# Altium schematic symbol library Texas_Instruments.SchLib: 5 symbols
Pins are listed as number, name and electrical type; pins without a type are passive.

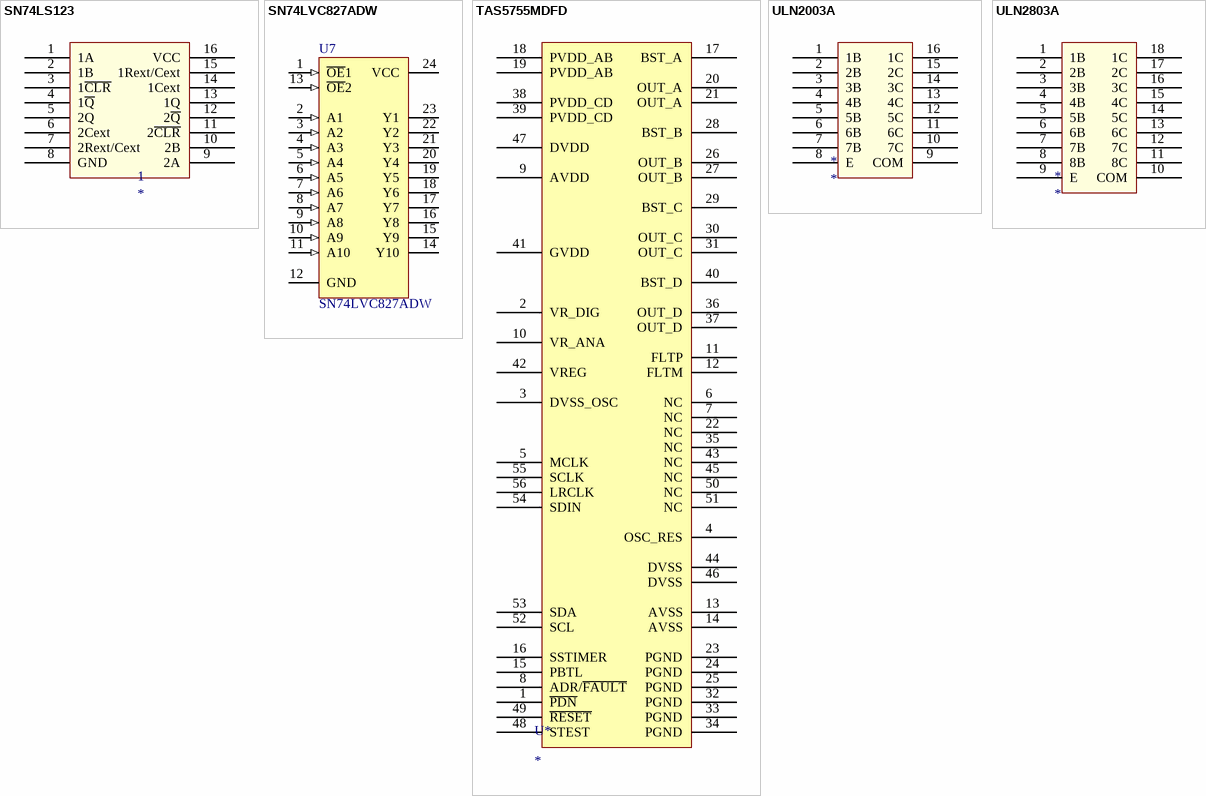
[diagram p0: symbols SN74LS123 to ULN2803A]

## SN74LS123
designator 1
footprint SOP127P600-8N
pins: 1 1A, 2 1B, 3 1~{CLR}, 4 1~{Q}, 5 2Q, 6 2Cext, 7 2Rext/Cext, 8 GND, 9 2A, 10 2B, 11 2~{CLR}, 12 2~{Q}, 13 1Q, 14 1Cext, 15 1Rext/Cext, 16 VCC

## SN74LVC827ADW
designator U7
10-Bit Buffer/Driver with 3-State Outputs; Published: 8-Jun-2000; LatestRevisionDate: 13-Apr-2006; LatestRevisionNote: IPC-7351 Footprint Added.; DatasheetVersion: Jun-1998; PackageVersion: Mar-2000; PackageReference: DW024; Publisher: Altium Limited; PackageDescription: 24-Pin Plastic Small Outline Integrated Circuit 1.27 mm Pitch; Code_JEDEC: MS-013; ComponentLink1Description: Manufacturer Link; ComponentLink1URL: http://www.ti.com/; ComponentLink2Description: Datasheet; ComponentLink2URL: http://www-s.ti.com/sc/ds/sn74lvc827a.pdf
footprint DW024_N (SOIC, 24-Leads, Body 15.4x7.5mm, Pitch 1.27mm, IPC Medium Density)
footprint DW024_L (SOIC, 24-Leads, Body 15.4x7.5mm, Pitch 1.27mm, IPC High Density)
footprint DW024_M (SOIC, 24-Leads, Body 15.4x7.5mm, Pitch 1.27mm, IPC Low Density)
3D model DW024 (24-Pin Plastic Small Outline Integrated Circuit 1.27 mm Pitch)
signal-integrity model SN74LVC827ADW
footprint SOIC24
pins: 1 ~{OE}1 (in), 2 A1 (in), 3 A2 (in), 4 A3 (in), 5 A4 (in), 6 A5 (in), 7 A6 (in), 8 A7 (in), 9 A8 (in), 10 A9 (in), 11 A10 (in), 12 GND (power), 13 ~{OE}2 (in), 14 Y10 (hiz), 15 Y9 (hiz), 16 Y8 (hiz), 17 Y7 (hiz), 18 Y6 (hiz), 19 Y5 (hiz), 20 Y4 (hiz), 21 Y3 (hiz), 22 Y2 (hiz), 23 Y1 (hiz), 24 VCC (power)

## TAS5755MDFD
designator U*
2x50W(2x19W + 1x50W) Digital Input Class-D Audio Amplifier with Processing and 2.1 Mode Support
footprint DFD (R-PDSO-G56) (PowerPAD Small Outline Plastic Package (Die Down))
pins: 1 ~{PDN}, 2 VR_DIG, 3 DVSS_OSC, 4 OSC_RES, 5 MCLK, 6 NC, 7 NC, 8 ADR/~{FAULT}, 9 AVDD, 10 VR_ANA, 11 FLTP, 12 FLTM, 13 AVSS, 14 AVSS, 15 PBTL, 16 SSTIMER, 17 BST_A, 18 PVDD_AB, 19 PVDD_AB, 20 OUT_A, 21 OUT_A, 22 NC, 23 PGND, 24 PGND, 25 PGND, 26 OUT_B, 27 OUT_B, 28 BST_B, 29 BST_C, 30 OUT_C, 31 OUT_C, 32 PGND, 33 PGND, 34 PGND, 35 NC, 36 OUT_D, 37 OUT_D, 38 PVDD_CD, 39 PVDD_CD, 40 BST_D, 41 GVDD, 42 VREG, 43 NC, 44 DVSS, 45 NC, 46 DVSS, 47 DVDD, 48 STEST, 49 ~{RESET}, 50 NC, 51 NC, 52 SCL, 53 SDA, 54 SDIN, 55 SCLK, 56 LRCLK

## ULN2003A
designator *
footprint SOIC16 (SOIC, 16-Leads, Body 9,90x3,90mm, Pitch 1,27mm, IPC Medium Density)
pins: 1 1B, 2 2B, 3 3B, 4 4B, 5 5B, 6 6B, 7 7B, 8 E, 9 COM, 10 7C, 11 6C, 12 5C, 13 4C, 14 3C, 15 2C, 16 1C

## ULN2803A
designator *
footprint SOIC18 (SOIC, 18-Leads, Body 11,55x7,50mm, Pitch 1,27mm, IPC Medium Density)
pins: 1 1B, 2 2B, 3 3B, 4 4B, 5 5B, 6 6B, 7 7B, 8 8B, 9 E, 10 COM, 11 8C, 12 7C, 13 6C, 14 5C, 15 4C, 16 3C, 17 2C, 18 1C